# Altium footprint library CameraBoard.PcbLib: 42 footprints (part 2 of 3)
Each footprint in its own frame and in the unit in brackets; x right, y up, seen from the top. Pads: shape width x height; smd on the part's side, far side on the other; paste and mask are expansions set on the pad; w line width, h text height; cw(c..) or ccw(c..) is an arc to the next point about the centre after c.
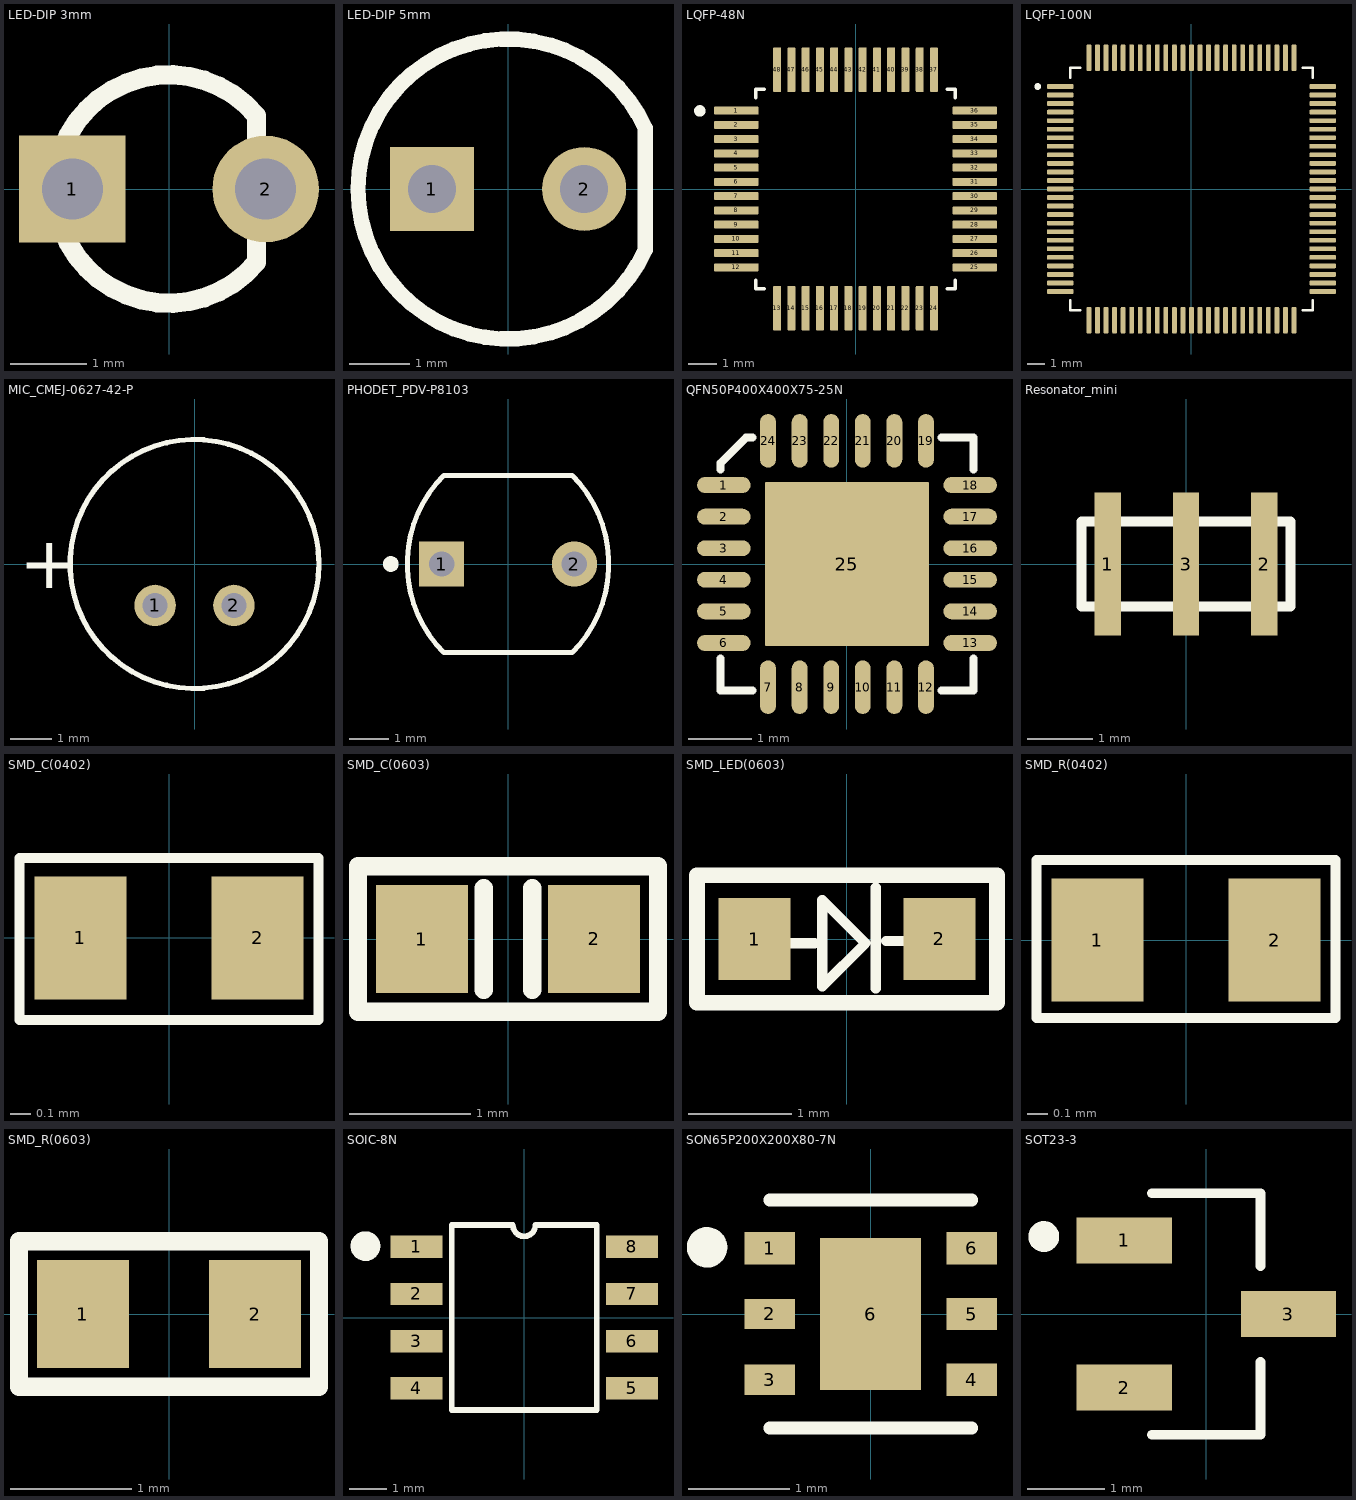
[diagram p1: the footprints below, top view; thin cyan lines are the x and y axes]

## LED-DIP 3mm [mm]
pads (2):
  rect 1.4x1.4 hole 0.8: 1(-1.27,0)
  round 1.4 hole 0.8: 2(1.27,0)
Top Overlay:
  lines w0.254: 1.149,-0.964 cw(c0,0) 1.149,0.964 1.149,-0.964

## LED-DIP 5mm [mm]
pads (2):
  rect 1.4x1.4 hole 0.8: 1(-1.27,0)
  round 1.4 hole 0.8: 2(1.27,0)
Top Overlay:
  lines w0.254: 2.285,-1.015 cw(c0,0) 2.285,1.015 ; 2.286,-1.016 2.286,1.016

## LQFP-48N [mm]
pads (48):
  rrect25% 1.56x0.28 smd: 1(-4.18,2.75) 2(-4.18,2.25) 3(-4.18,1.75) 4(-4.18,1.25) 5(-4.18,0.75) 6(-4.18,0.25) 7(-4.18,-0.25) 8(-4.18,-0.75) 9(-4.18,-1.25) 10(-4.18,-1.75) 11(-4.18,-2.25) 12(-4.18,-2.75) 25(4.18,-2.75) 26(4.18,-2.25) 27(4.18,-1.75) 28(4.18,-1.25) 29(4.18,-0.75) 30(4.18,-0.25) 31(4.18,0.25) 32(4.18,0.75) 33(4.18,1.25) 34(4.18,1.75) 35(4.18,2.25) 36(4.18,2.75)
  rrect25% 0.28x1.56 smd: 13(-2.75,-4.18) 14(-2.25,-4.18) 15(-1.75,-4.18) 16(-1.25,-4.18) 17(-0.75,-4.18) 18(-0.25,-4.18) 19(0.25,-4.18) 20(0.75,-4.18) 21(1.25,-4.18) 22(1.75,-4.18) 23(2.25,-4.18) 24(2.75,-4.18) 37(2.75,4.18) 38(2.25,4.18) 39(1.75,4.18) 40(1.25,4.18) 41(0.75,4.18) 42(0.25,4.18) 43(-0.25,4.18) 44(-0.75,4.18) 45(-1.25,4.18) 46(-1.75,4.18) 47(-2.25,4.18) 48(-2.75,4.18)
Top Overlay:
  circle w0.2: c-5.46,2.74 r0.1
  lines w0.127: -3.5,-3.21 -3.5,-3.5 -3.21,-3.5 ; -3.5,3.21 -3.5,3.5 -3.21,3.5 ; 3.21,-3.5 3.5,-3.5 3.5,-3.21 ; 3.21,3.5 3.5,3.5 3.5,3.21

## LQFP-100N [mm]
pads (100):
  rrect50% 1.56x0.28 smd: 1(-7.68,6) 2(-7.68,5.5) 3(-7.68,5) 4(-7.68,4.5) 5(-7.68,4) 6(-7.68,3.5) 7(-7.68,3) 8(-7.68,2.5) 9(-7.68,2) 10(-7.68,1.5) 11(-7.68,1) 12(-7.68,0.5) 13(-7.68,0) 14(-7.68,-0.5) 15(-7.68,-1) 16(-7.68,-1.5) 17(-7.68,-2) 18(-7.68,-2.5) 19(-7.68,-3) 20(-7.68,-3.5) 21(-7.68,-4) 22(-7.68,-4.5) 23(-7.68,-5) 24(-7.68,-5.5) 25(-7.68,-6) 51(7.68,-6) 52(7.68,-5.5) 53(7.68,-5) 54(7.68,-4.5) 55(7.68,-4) 56(7.68,-3.5) 57(7.68,-3) 58(7.68,-2.5) 59(7.68,-2) 60(7.68,-1.5) 61(7.68,-1) 62(7.68,-0.5) 63(7.68,0) 64(7.68,0.5) 65(7.68,1) 66(7.68,1.5) 67(7.68,2) 68(7.68,2.5) 69(7.68,3) 70(7.68,3.5) 71(7.68,4) 72(7.68,4.5) 73(7.68,5) 74(7.68,5.5) 75(7.68,6)
  rrect50% 0.28x1.56 smd: 26(-6,-7.68) 27(-5.5,-7.68) 28(-5,-7.68) 29(-4.5,-7.68) 30(-4,-7.68) 31(-3.5,-7.68) 32(-3,-7.68) 33(-2.5,-7.68) 34(-2,-7.68) 35(-1.5,-7.68) 36(-1,-7.68) 37(-0.5,-7.68) 38(0,-7.68) 39(0.5,-7.68) 40(1,-7.68) 41(1.5,-7.68) 42(2,-7.68) 43(2.5,-7.68) 44(3,-7.68) 45(3.5,-7.68) 46(4,-7.68) 47(4.5,-7.68) 48(5,-7.68) 49(5.5,-7.68) 50(6,-7.68) 76(6,7.68) 77(5.5,7.68) 78(5,7.68) 79(4.5,7.68) 80(4,7.68) 81(3.5,7.68) 82(3,7.68) 83(2.5,7.68) 84(2,7.68) 85(1.5,7.68) 86(1,7.68) 87(0.5,7.68) 88(0,7.68) 89(-0.5,7.68) 90(-1,7.68) 91(-1.5,7.68) 92(-2,7.68) 93(-2.5,7.68) 94(-3,7.68) 95(-3.5,7.68) 96(-4,7.68) 97(-4.5,7.68) 98(-5,7.68) 99(-5.5,7.68) 100(-6,7.68)
Top Overlay:
  circle w0.2: c-9,6 r0.1
  lines w0.127: -7.1,-6.5 -7.1,-7.1 -6.5,-7.1 ; -7.1,6.5 -7.1,7.1 -6.5,7.1 ; 6.5,-7.1 7.1,-7.1 7.1,-6.5 ; 6.5,7.1 7.1,7.1 7.1,6.5

## MIC_CMEJ-0627-42-P [mm]
pads (2):
  round 1 hole 0.6: 1(-0.95,-1) 2(0.95,-1)
Top Overlay:
  circle w0.127: c0,0 r3
  text "+" at -4.23,-0.59 h1.27
3D body "CUI_DEVICES_CMEJ-0627-42-P.step": height 3.19, standoff -2.56, extent -3.01,-2.97 2.99,3.03

## PHODET_PDV-P8103 [mm]
pads (2):
  rect 1.158x1.158 hole 0.65: 1(-1.7,0)
  round 1.158 hole 0.65: 2(1.7,0)
Top Overlay:
  circle w0.2: c-3,0 r0.1
  lines w0.127: -1.64,-2.27 cw(c0.63,0) -1.64,2.27 1.64,2.27 cw(c-0.63,0) 1.64,-2.27 -1.64,-2.27
3D body "PDV-P8104.STEP": height 3.38, standoff -25, extent -2.57,-2.145 2.51,2.145

## QFN50P400X400X75-25N [mm]
pads (25):
  oval 0.85x0.25 smd: 1(-1.95,1.25) 2(-1.95,0.75) 3(-1.95,0.25) 4(-1.95,-0.25) 5(-1.95,-0.75) 6(-1.95,-1.25) 13(1.95,-1.25) 14(1.95,-0.75) 15(1.95,-0.25) 16(1.95,0.25) 17(1.95,0.75) 18(1.95,1.25)
  oval 0.25x0.85 smd: 7(-1.25,-1.95) 8(-0.75,-1.95) 9(-0.25,-1.95) 10(0.25,-1.95) 11(0.75,-1.95) 12(1.25,-1.95) 19(1.25,1.95) 20(0.75,1.95) 21(0.25,1.95) 22(-0.25,1.95) 23(-0.75,1.95) 24(-1.25,1.95)
  rrect2% 2.6x2.6 smd: 25(0,0)
Top Overlay:
  lines w0.127: -2,-1.5 -2,-2 -1.5,-2 ; -2,1.5 -2,1.6 -1.6,2 -1.5,2 ; 1.5,-2 2,-2 2,-1.5 ; 1.5,2 2,2 2,1.5

## Resonator_mini [mm]
pads (3):
  rect 0.4x2.2 smd: 1(-1.2,0) 2(1.2,0) 3(0,0)
Top Overlay:
  lines w0.152: -1.6,-0.65 -1.6,0.65 1.6,0.65 1.6,-0.65 -1.6,-0.65
3D body: height 2.5, standoff 0.1, extent -1.58,-0.66 1.6,0.64

## SMD_C(0402) [mm]
pads (2):
  rect 0.45x0.6 smd: 1(-0.432,0) 2(0.432,0)
Top Overlay:
  lines w0.05: -0.73,-0.4 0.73,-0.4 0.73,0.39 -0.73,0.39 -0.73,-0.4
3D body "GQM1555C2D9R5BB01J--3DModel-STEP-56544.STEP": height 0.5, standoff 0, extent -0.49,-0.27 0.51,0.28

## SMD_C(0603) [mil]
pads (2):
  rect 30x35 smd mask+2: 1(-28,0) 2(28,0)
Top Overlay:
  lines w6: -7.87,-16.54 -7.87,16.54 ; 7.87,-16.54 7.87,16.54 ; -48.82,-23.62 -48.82,23.62 48.82,23.62 48.82,-23.62 -48.82,-23.62
3D body "User Library-CapCeramic_Kemet_0603_1608.step": height 31.5, standoff 0, extent -31.49,-15.74 31.5,15.75

## SMD_LED(0603) [mm]
pads (2):
  rect 0.7x0.8 smd: 1(-0.9,0) 2(0.9,0)
Top Overlay:
  lines w0.1: -0.7,-0.042 -0.32,-0.042 ; 0.28,-0.48 0.28,0.5 ; 0.38,-0.02 0.7,-0.02 ; -0.24,-0.46 -0.24,0.38 0.18,-0.04 -0.24,-0.46
  lines w0.152: -1.46,-0.62 -1.46,0.62 1.46,0.62 1.46,-0.62 -1.46,-0.62
3D body: height 0.6, standoff 0, extent -0.98,-0.34 0.98,0.34

## SMD_R(0402) [mm]
pads (2):
  rect 0.45x0.6 smd: 1(-0.432,0) 2(0.432,0)
Top Overlay:
  lines w0.05: -0.73,-0.38 0.73,-0.38 0.73,0.39 -0.73,0.39 -0.73,-0.38
3D body "RE0402FRE07100KL--3DModel-STEP-46669.STEP": height 0.37, standoff 0, extent -0.51,-0.25 0.49,0.25

## SMD_R(0603) [mil]
pads (2):
  rect 30x35 smd mask+2: 1(-28,0) 2(28,0)
Top Overlay:
  lines w6: -48.82,-23.62 48.82,-23.62 48.82,23.62 -48.82,23.62 -48.82,-23.62
3D body: height 23.62, standoff 0, extent 28.35,-14.17 34.99,13.39
3D body: height 23.62, standoff 0, extent -34.65,-14.17 -28,13.39
3D body: height 23.62, standoff 0, extent -28,-14.17 28.35,13.39

## SOIC-8N [mm]
pads (8):
  rect 1.4x0.6 smd: 1(-2.9,1.905) 2(-2.9,0.635) 3(-2.9,-0.635) 4(-2.9,-1.905) 5(2.9,-1.905) 6(2.9,-0.635) 7(2.9,0.635) 8(2.9,1.905)
Top Overlay:
  circle w0.4: c-4.27,1.92 r0.2
  lines w0.152: -1.95,-2.489 1.95,-2.489 1.95,2.489 0.305,2.489 cw(c0,2.489) -0.305,2.489 -1.95,2.489 -1.95,-2.489
3D body: height 0.5, standoff 0.1, extent 2.13,-2.1 3.16,-1.72
3D body: height 0.5, standoff 0.1, extent 2.13,-0.83 3.16,-0.45
3D body: height 0.5, standoff 0.1, extent 2.13,0.44 3.16,0.82
3D body: height 0.5, standoff 0.1, extent 2.13,1.71 3.16,2.09
3D body: height 0.5, standoff 0.1, extent -3.16,-2.09 -2.13,-1.71
3D body: height 0.5, standoff 0.1, extent -3.16,-0.82 -2.13,-0.44
3D body: height 0.5, standoff 0.1, extent -3.16,0.45 -2.13,0.83
3D body: height 0.5, standoff 0.1, extent -3.16,1.72 -2.13,2.1
3D body: height 3, standoff 0.1, extent -1.91,-2.46 1.95,2.47

## SON65P200X200X80-7N [mm] "SON65P200X200X80-7N"
pads (7):
  rect 0.5x0.32 smd: 1(-1,0.65) 4(1,-0.65) 5(1,0) 6(1,0.65)
  rect 0.5x0.3 smd: 2(-1,0) 3(-1,-0.65)
  rect 1x1.5 smd: 6(0,0)
Top Overlay:
  circle w0.2: c-1.62,0.66 r0.1
  lines w0.127: -1,-1.13 1,-1.13 ; -1,1.13 1,1.13
Top Paste:
  rectangle: -0.316,-0.506 0.316,0.506

## SOT23-3 [mm]
pads (3):
  rect 1.23x0.59 smd: 1(-1.06,0.95) 2(-1.06,-0.95) 3(1.06,0)
Top Overlay:
  circle w0.2: c-2.1,1 r0.1
  lines w0.127: -0.7,-1.56 0.7,-1.56 0.7,-0.62 ; -0.7,1.56 0.7,1.56 0.7,0.62